# Altium schematic symbol library Connectors.SchLib: 1 symbol
Pins are listed as number, name and electrical type; pins without a type are passive.

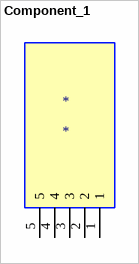
[diagram p0: symbol Component_1]

## Component_1
designator *
footprint BM05B-SRSS-TB (CONN HEADER SH 5POS TOP 1MM TIN)
pins: 1, 2, 3, 4, 5